# EAGLE library part UTX_EE445M_LIDAR_FRONT_BOARD_CONNECTOR_PTH (library Z)
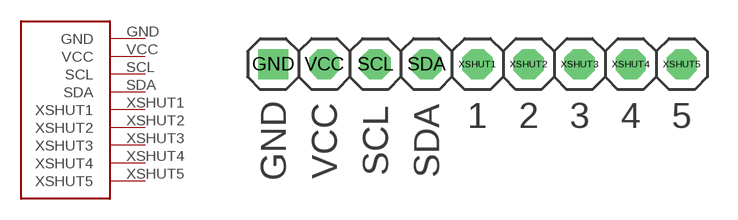
[diagram p4: symbol with the pads of UTX_EE445M_LIDAR_FRONT_BOARD_CONNECTOR_PTH; footprint UTX_EE445M_LIDAR_FRONT_BOARD_CONNECTOR_PTH]

Designator prefix -

## UTX_EE445M_LIDAR_FRONT_BOARD_CONNECTOR_PTH  [UTX_EE445M_LIDAR_FRONT_BOARD_CONNECTOR_PTH]
GND  GND
SCL  SCL
SDA  SDA
VCC  VCC
XSHUT1  XSHUT1
XSHUT2  XSHUT2
XSHUT3  XSHUT3
XSHUT4  XSHUT4
XSHUT5  XSHUT5

## Footprint UTX_EE445M_LIDAR_FRONT_BOARD_CONNECTOR_PTH (pad centres in mm)
PIN HEADER
drill 1 square: GND -10.16,2.54
drill 1 octagon: SCL -5.08,2.54; SDA -2.54,2.54; VCC -7.62,2.54; XSHUT1 0,2.54; XSHUT2 2.54,2.54; XSHUT3 5.08,2.54; XSHUT4 7.62,2.54; XSHUT5 10.16,2.54